# Altium integrated library Capacitor 0402.IntLib: 15 symbols
Pins are listed as number, name and electrical type; pins without a type are passive.

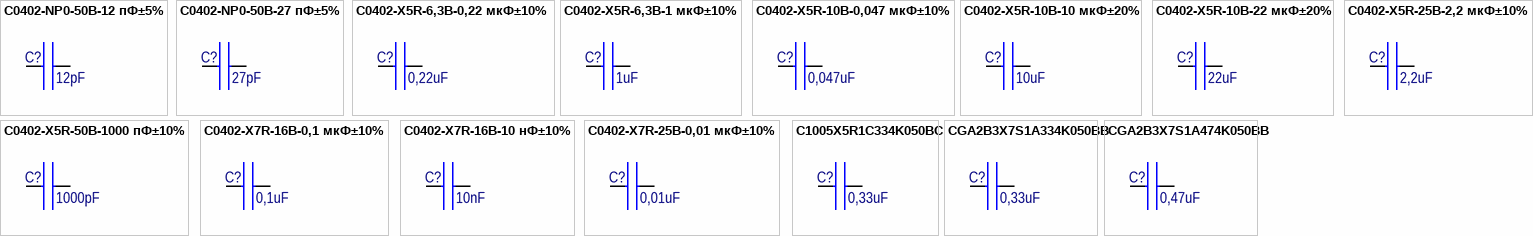
[diagram p0: symbols C0402-NP0-50В-12 пФ±5% to CGA2B3X7S1A474K050BB]

## C0402-NP0-50В-12 пФ±5%
designator C?  value 12pF
CAP CER 12PF 50V 5% NP0 0402; Manufacturer: Murata Electronics; ManufacturerPartNumber: GRM1555C1H120J; Group: 9170; RegulationProcent: 10; TypeName: Конденсатор; Published: 19.11.2014; Publisher: Stanchik A; Distributor: Digi-Key; DistributorPartNumber: 490-5924-6-ND; LatestRevisionDate: 19.11.2014; Package: 1005 [0402]; Library: Capacitor 0402
footprint CAPC1005N [0402] (Chip Capacitor, Body 1.0x0.5mm, IPC Medium Density)
footprint Custom 1005 (Chip Resistor, Body 1.1x0.5mm)
pins: 1, 2

## C0402-NP0-50В-27 пФ±5%
designator C?  value 27pF
CAP CER 27PF 50V 5% NP0 0402; Manufacturer: Murata Electronics; ManufacturerPartNumber: GRM1555C1H270J; Group: 9170; RegulationProcent: 10; TypeName: Конденсатор; Published: 19.11.2014; Publisher: Stanchik A; Distributor: Digi-Key; DistributorPartNumber: 490-5869-6-ND; LatestRevisionDate: 19.11.2014; Package: 1005 [0402]; Library: Capacitor 0402
footprint CAPC1005N [0402] (Chip Capacitor, Body 1.0x0.5mm, IPC Medium Density)
footprint Custom 1005 (Chip Resistor, Body 1.1x0.5mm)
pins: 1, 2

## C0402-X5R-6,3В-0,22 мкФ±10%
designator C?  value 0,22uF
CAP CER 0.22UF 6.3V 10% X5R 0402; Manufacturer: Murata Electronics; ManufacturerPartNumber: GRM155R60J224K; Group: 9170; RegulationProcent: 10; TypeName: Конденсатор; Published: 19.09.2014; Publisher: Stanchik A; Distributor: Digi-Key; DistributorPartNumber: 490-5407-6-ND; LatestRevisionDate: 19.09.2014; Package: 1005 [0402]; Library: Capacitor 0402
footprint CAPC1005N [0402] (Chip Capacitor, Body 1.0x0.5mm, IPC Medium Density)
footprint Custom 1005 (Chip Resistor, Body 1.1x0.5mm)
pins: 1, 2

## C0402-X5R-6,3В-1 мкФ±10%
designator C?  value 1uF
CAP CER 1UF 6.3V 10% X5R 0402; Manufacturer: Murata Electronics; ManufacturerPartNumber: GRM155R60J105K; Group: 9170; RegulationProcent: 10; TypeName: Конденсатор; Published: 19.09.2014; Publisher: Stanchik A; Distributor: Digi-Key; DistributorPartNumber: 490-1320-6-ND; LatestRevisionDate: 19.09.2014; Package: 1005 [0402]; Library: Capacitor 0402
footprint CAPC1005N [0402] (Chip Capacitor, Body 1.0x0.5mm, IPC Medium Density)
footprint Custom 1005 (Chip Resistor, Body 1.1x0.5mm)
pins: 1, 2

## C0402-X5R-10В-0,047 мкФ±10%
designator C?  value 0,047uF
CAP CER 0.047UF 10V 10% X5R 0402; Manufacturer: Murata Electronics; ManufacturerPartNumber: GRM155R61A473K; Group: 9170; RegulationProcent: 10; TypeName: Конденсатор; Published: 14.01.2015; Publisher: Stanchik A; Distributor: Digi-Key; DistributorPartNumber: 490-5412-1-ND; LatestRevisionDate: 14.01.2015; Package: 1005 [0402]; Library: Capacitor 0402
footprint CAPC1005N [0402] (Chip Capacitor, Body 1.0x0.5mm, IPC Medium Density)
footprint Custom 1005 (Chip Resistor, Body 1.1x0.5mm)
pins: 1, 2

## C0402-X5R-10В-10 мкФ±20%
designator C?  value 10uF
CAP CER 10UF 10V X5R 0402; Manufacturer: Samsung Electro-Mechanics; ManufacturerPartNumber: CL05A106MP5NU; Group: 9170; RegulationProcent: 10; TypeName: Конденсатор; Published: 31.01.2018; Publisher: Stanchik A; Distributor: Digi-Key; DistributorPartNumber: 1276-1450-1-ND; LatestRevisionDate: 31.01.2018; Package: 1005 [0402]; Library: Capacitor 0402
footprint CAPC1005N [0402] (Chip Capacitor, Body 1.0x0.5mm, IPC Medium Density)
footprint Custom 1005 (Chip Resistor, Body 1.1x0.5mm)
pins: 1, 2

## C0402-X5R-10В-22 мкФ±20%
designator C?, comment value 22uF  (hidden comment: Murata Electronics GRM158R61A226ME15D)
10V 22uF X5R ±20% 0402 Multilayer Ceramic Capacitors MLCC - SMD/SMT ROHS; ManufacturerPartNumber: GRM1555C1H120J; Group: 9170; RegulationProcent: 10; TypeName: Конденсатор; Published: 19.11.2014; Publisher: Stanchik A; Distributor: Digi-Key; DistributorPartNumber: 490-5924-6-ND; LatestRevisionDate: 19.11.2014; Manufacturer: Murata Electronics; Package: 1005 [0402]; Library: Capacitor 0402; Supplier 1: Avnet; Supplier Part Number 1: GRM158R61A226ME15D
footprint CAPC1005N [0402] (Chip Capacitor, Body 1.0x0.5mm, IPC Medium Density)
footprint Custom 1005 (Chip Resistor, Body 1.1x0.5mm)
pins: 1, 2

## C0402-X5R-25В-2,2 мкФ±10%
designator C?  value 2,2uF
CAP CER 2.2UF 25V X5R 0402; Manufacturer: Murata Electronics; ManufacturerPartNumber: GRM155R61E225K; Group: 9170; RegulationProcent: 10; TypeName: Конденсатор; Published: 18.03.2016; Publisher: Stanchik A; Distributor: Digi-Key; DistributorPartNumber: 490-12703-1-ND; LatestRevisionDate: 18.03.2016; Package: 1005 [0402]; Library: Capacitor 0402
footprint CAPC1005N [0402] (Chip Capacitor, Body 1.0x0.5mm, IPC Medium Density)
footprint Custom 1005 (Chip Resistor, Body 1.1x0.5mm)
pins: 1, 2

## C0402-X5R-50В-1000 пФ±10%
designator C?  value 1000pF
CAP CER 1000PF 50V X5R 0402; Manufacturer: Murata Electronics; ManufacturerPartNumber: GRM155R61H102K; Group: 9170; RegulationProcent: 10; TypeName: Конденсатор; Published: 11.03.2016; Publisher: Stanchik A; Distributor: Digi-Key; DistributorPartNumber: 490-6316-1-ND; LatestRevisionDate: 11.03.2016; Package: 1005 [0402]; Library: Capacitor 0402
footprint CAPC1005N [0402] (Chip Capacitor, Body 1.0x0.5mm, IPC Medium Density)
footprint Custom 1005 (Chip Resistor, Body 1.1x0.5mm)
pins: 1, 2

## C0402-X7R-16В-0,1 мкФ±10%
designator C?  value 0,1uF
CAP CER 0.1UF 16V 10% X7R 0402; Manufacturer: Murata Electronics; ManufacturerPartNumber: GRM155R71C104K; Group: 9170; RegulationProcent: 10; TypeName: Конденсатор; Published: 19.09.2014; Publisher: Stanchik A; Distributor: Digi-Key; DistributorPartNumber: 490-3261-6-ND; LatestRevisionDate: 19.09.2014; Package: 1005 [0402]; Library: Capacitor 0402
footprint CAPC1005N [0402] (Chip Capacitor, Body 1.0x0.5mm, IPC Medium Density)
footprint Custom 1005 (Chip Resistor, Body 1.1x0.5mm)
pins: 1, 2

## C0402-X7R-16В-10 нФ±10%
designator C?, comment value 10nF  (hidden comment: YAGEO CC0402KRX7R7BB103)
16V 10nF X7R ±10% 0402 Multilayer Ceramic Capacitors MLCC - SMD/SMT ROHS; Manufacturer: Murata Electronics; ManufacturerPartNumber: GRM1555C1H120J; Group: 9170; RegulationProcent: 10; TypeName: Конденсатор; Published: 19.11.2014; Publisher: Stanchik A; Distributor: Digi-Key; DistributorPartNumber: 490-5924-6-ND; LatestRevisionDate: 19.11.2014; Package: 1005 [0402]; Library: Capacitor 0402; Supplier 1: Avnet; Supplier Part Number 1: CC0402KRX7R7BB103
footprint CAPC1005N [0402] (Chip Capacitor, Body 1.0x0.5mm, IPC Medium Density)
pins: 1, 2

## C0402-X7R-25В-0,01 мкФ±10%
designator C?  value 0,01uF
CAP CER 10000PF 25V 10% X7R 0402; Manufacturer: Murata Electronics; ManufacturerPartNumber: GRM155R71E103K; Group: 9170; RegulationProcent: 10; TypeName: Конденсатор; Published: 19.09.2014; Publisher: Stanchik A; Distributor: Digi-Key; DistributorPartNumber: 490-1312-6-ND; LatestRevisionDate: 19.09.2014; Package: 1005 [0402]; Library: Capacitor 0402
footprint CAPC1005N [0402] (Chip Capacitor, Body 1.0x0.5mm, IPC Medium Density)
footprint Custom 1005 (Chip Resistor, Body 1.1x0.5mm)
pins: 1, 2

## C1005X5R1C334K050BC
designator C?  value 0,33uF
CAP CER 0.33UF 16V X5R 0402; Manufacturer: TDK Corporation; ManufacturerPartNumber: C1005X5R1C334K050BC; Group: 9170; RegulationProcent: 10; TypeName: Конденсатор; Published: 18.03.2016; Publisher: Stanchik A; Distributor: Digi-Key; DistributorPartNumber: 445-4974-1-ND; LatestRevisionDate: 18.03.2016; Package: 1005 [0402]; Library: Capacitor 0402
footprint CAPC1005N [0402] (Chip Capacitor, Body 1.0x0.5mm, IPC Medium Density)
footprint Custom 1005 (Chip Resistor, Body 1.1x0.5mm)
pins: 1, 2

## CGA2B3X7S1A334K050BB
designator C?  value 0,33uF
CAP CER .33UF 10V 10% X7S 0402; Manufacturer: TDK Corporation; ManufacturerPartNumber: CGA2B3X7S1A334K050BB; Group: 9170; RegulationProcent: 10; TypeName: Конденсатор; Published: 14.01.2015; Publisher: Stanchik A; Distributor: Digi-Key; DistributorPartNumber: 445-16098-1-ND; LatestRevisionDate: 14.01.2015; Package: 1005 [0402]; Library: Capacitor 0402
footprint CAPC1005N [0402] (Chip Capacitor, Body 1.0x0.5mm, IPC Medium Density)
footprint Custom 1005 (Chip Resistor, Body 1.1x0.5mm)
pins: 1, 2

## CGA2B3X7S1A474K050BB
designator C?  value 0,47uF
CAP CER .47UF 10V 10% X7S 0402; Manufacturer: TDK Corporation; ManufacturerPartNumber: CGA2B3X7S1A474K050BB; Group: 9170; RegulationProcent: 10; TypeName: Конденсатор; Published: 14.01.2015; Publisher: Stanchik A; Distributor: Digi-Key; DistributorPartNumber: 445-16100-1-ND; LatestRevisionDate: 14.01.2015; Package: 1005 [0402]; Library: Capacitor 0402
footprint CAPC1005N [0402] (Chip Capacitor, Body 1.0x0.5mm, IPC Medium Density)
footprint Custom 1005 (Chip Resistor, Body 1.1x0.5mm)
pins: 1, 2